# EAGLE library part 5584ТЛ2АУ (library std-logic)
Шесть триггеров Шмитта-инверторов. Производитель: ОАО "ИНТЕГРАЛ", г. Минск, р. Беларусь Технические условия: АЕЯР.431200.209 ТУ
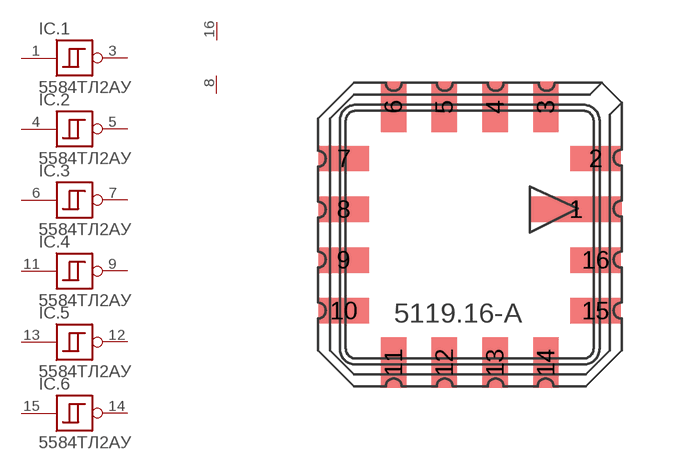
[diagram p4: symbol with the pads of 5119.16-А; footprint 5119.16-А]

Designator prefix IC; gates .1=5584ТЛ2АУ .2=5584ТЛ2АУ .3=5584ТЛ2АУ .4=5584ТЛ2АУ .5=5584ТЛ2АУ .6=5584ТЛ2АУ G$1=5584_PWR

## 5584ТЛ2АУ  [5119.16-А]
1  .1:IN  in
3  .1:OUT  out
4  .2:IN  in
5  .2:OUT  out
6  .3:IN  in
7  .3:OUT  out
8  G$1:GND  pwr
9  .4:OUT  out
11  .4:IN  in
12  .5:OUT  out
13  .5:IN  in
14  .6:OUT  out
15  .6:IN  in
16  G$1:VCC  pwr

## Footprint 5119.16-А (pad centres in mm)
smd 2.3 x 0.635: 1 2.66,0.635
smd 1.27 x 0.635: 2 3.15,1.905; 7 -3.15,1.905; 8 -3.15,0.635; 9 -3.15,-0.635; 10 -3.15,-1.905; 15 3.15,-1.905; 16 3.15,-0.635
smd 0.635 x 1.27: 3 1.905,3.2; 4 0.635,3.2; 5 -0.635,3.2; 6 -1.905,3.2; 11 -1.905,-3.2; 12 -0.635,-3.2; 13 0.635,-3.2; 14 1.905,-3.2